# EAGLE library part PWM8A04 (library buksir)
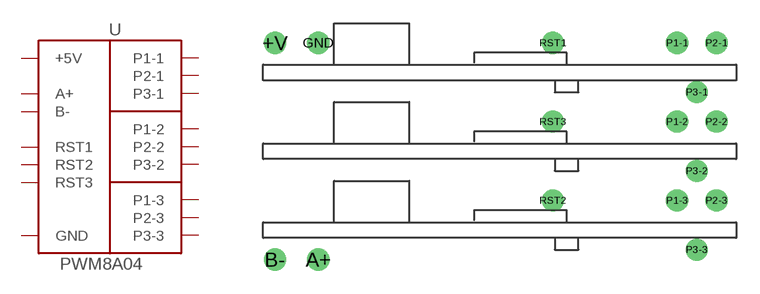
[diagram p1: symbol with the pads of PWM8A04; footprint PWM8A04]

Designator prefix U

## PWM8A04  [PWM8A04]
+V  +5V
A+  A+
B-  B-
GND  GND
P1-1  P1-1
P1-2  P1-2
P1-3  P1-3
P2-1  P2-1
P2-2  P2-2
P2-3  P2-3
P3-1  P3-1
P3-2  P3-2
P3-3  P3-3
RST1  RST1
RST2  RST2
RST3  RST3

## Footprint PWM8A04 (pad centres in mm)
drill 0.7 pad 1.422: +V 0.762,6.985; A+ 3.556,-6.985; B- 0.762,-6.985; GND 3.556,6.985; P1-1 26.67,6.985; P1-2 26.67,1.905; P1-3 26.67,-3.175; P2-1 29.21,6.985; P2-2 29.21,1.905; P2-3 29.21,-3.175; P3-1 27.94,3.81; P3-2 27.94,-1.27; P3-3 27.94,-6.35; RST1 18.669,6.985; RST2 18.669,-3.175; RST3 18.669,1.905